# Altium schematic symbol library B4B-XH-A(LF)(SN).SchLib: 1 symbol
Pins are listed as number, name and electrical type; pins without a type are passive.

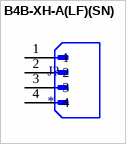
[diagram p0: symbol B4B-XH-A(LF)(SN)]

## B4B-XH-A(LF)(SN)
designator J?
MP: B4B-XH-A(LF)(SN); Price: None; Value: *; Availability: Unavailable; Package: None
footprint JST_B4B-XH-A(LF)(SN)
pins: 1, 2, 3, 4